# Altium footprint library 5v DC-DC.PcbLib: 1 footprints
Each footprint in its own frame and in the unit in brackets; x right, y up, seen from the top. Pads: shape width x height; smd on the part's side, far side on the other; paste and mask are expansions set on the pad; w line width, h text height; cw(c..) or ccw(c..) is an arc to the next point about the centre after c.
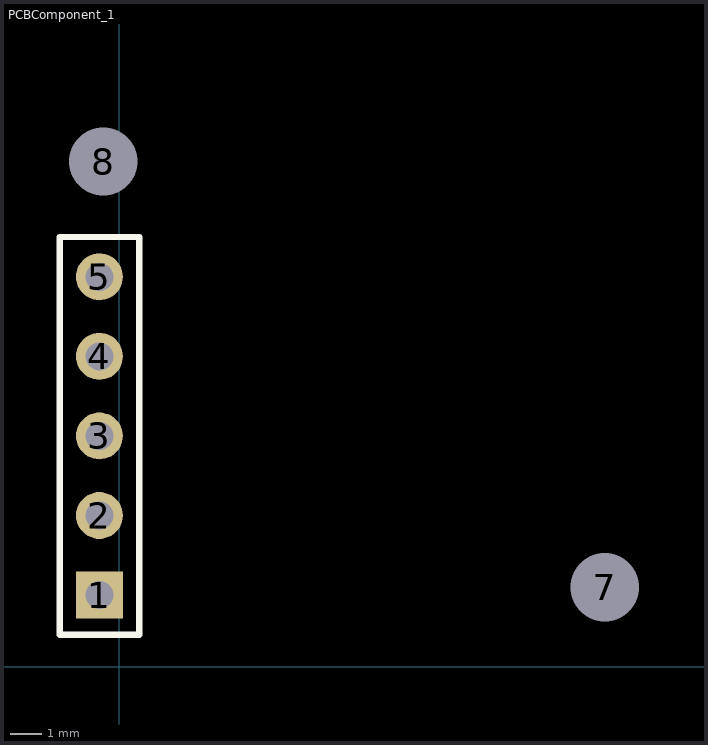
[diagram p0: the footprint, top view; thin cyan lines are the x and y axes]

## PCBComponent_1 [mm]
pads (7):
  rect 1.5x1.5 hole 0.9: 1(-0.635,2.286)
  round 1.5 hole 0.9: 2(-0.635,4.826) 3(-0.635,7.366) 4(-0.635,9.906) 5(-0.635,12.446)
  round 1.524 hole 2.184: 7(15.494,2.54) 8(-0.508,16.129)
Top Overlay:
  lines w0.2: -1.905,1.016 0.635,1.016 0.635,13.716 -1.905,13.716 -1.905,1.016
Bottom Overlay:
  lines w0.254: -2.667,18.181 -2.667,0.381 17.633,0.381 ; -2.667,18.288 17.633,18.288 ; 17.653,0.508 17.653,18.308